# EAGLE library part NRF52810-QFAA (library agsys-valvecontrol)
Nordic nRF52810 BLE SoC QFN32
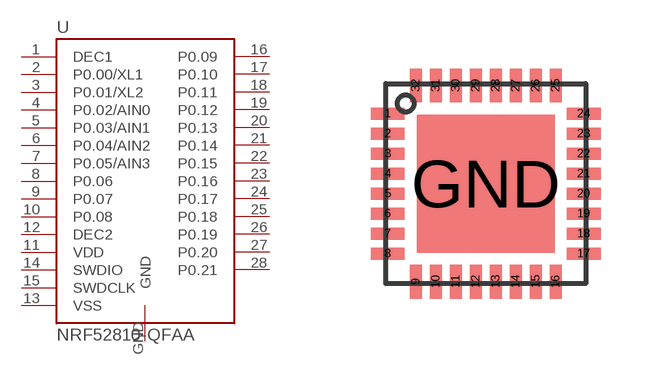
[diagram p1: symbol with the pads of QFN32-5X5; footprint QFN32-5X5]

Designator prefix U

## NRF52810-QFAA  [QFN32-5X5]
1  DEC1
2  P0.00/XL1
3  P0.01/XL2
4  P0.02/AIN0
5  P0.03/AIN1
6  P0.04/AIN2
7  P0.05/AIN3
8  P0.06
9  P0.07
10  P0.08
11  VDD  pwr
12  DEC2
13  VSS  pwr
14  SWDIO
15  SWDCLK
16  P0.09
17  P0.10
18  P0.11
19  P0.12
20  P0.13
21  P0.14
22  P0.15
23  P0.16
24  P0.17
25  P0.18
26  P0.19
27  P0.20
28  P0.21
GND  GND  pwr

## Footprint QFN32-5X5 (pad centres in mm)
QFN32 5x5mm 0.5mm pitch - nRF52810
smd 0.85 x 0.3: 1 -2.45,1.75; 2 -2.45,1.25; 3 -2.45,0.75; 4 -2.45,0.25; 5 -2.45,-0.25; 6 -2.45,-0.75; 7 -2.45,-1.25; 8 -2.45,-1.75; 17 2.45,-1.75; 18 2.45,-1.25; 19 2.45,-0.75; 20 2.45,-0.25; 21 2.45,0.25; 22 2.45,0.75; 23 2.45,1.25; 24 2.45,1.75
smd 0.3 x 0.85: 9 -1.75,-2.45; 10 -1.25,-2.45; 11 -0.75,-2.45; 12 -0.25,-2.45; 13 0.25,-2.45; 14 0.75,-2.45; 15 1.25,-2.45; 16 1.75,-2.45; 25 1.75,2.45; 26 1.25,2.45; 27 0.75,2.45; 28 0.25,2.45; 29 -0.25,2.45; 30 -0.75,2.45; 31 -1.25,2.45; 32 -1.75,2.45
smd 3.45 x 3.45: GND 0,0